# Altium integrated library Linear Technology PMIC-Switching Reg LT1074-LT8705.IntLib: 2252 symbols (part 14 of 124)
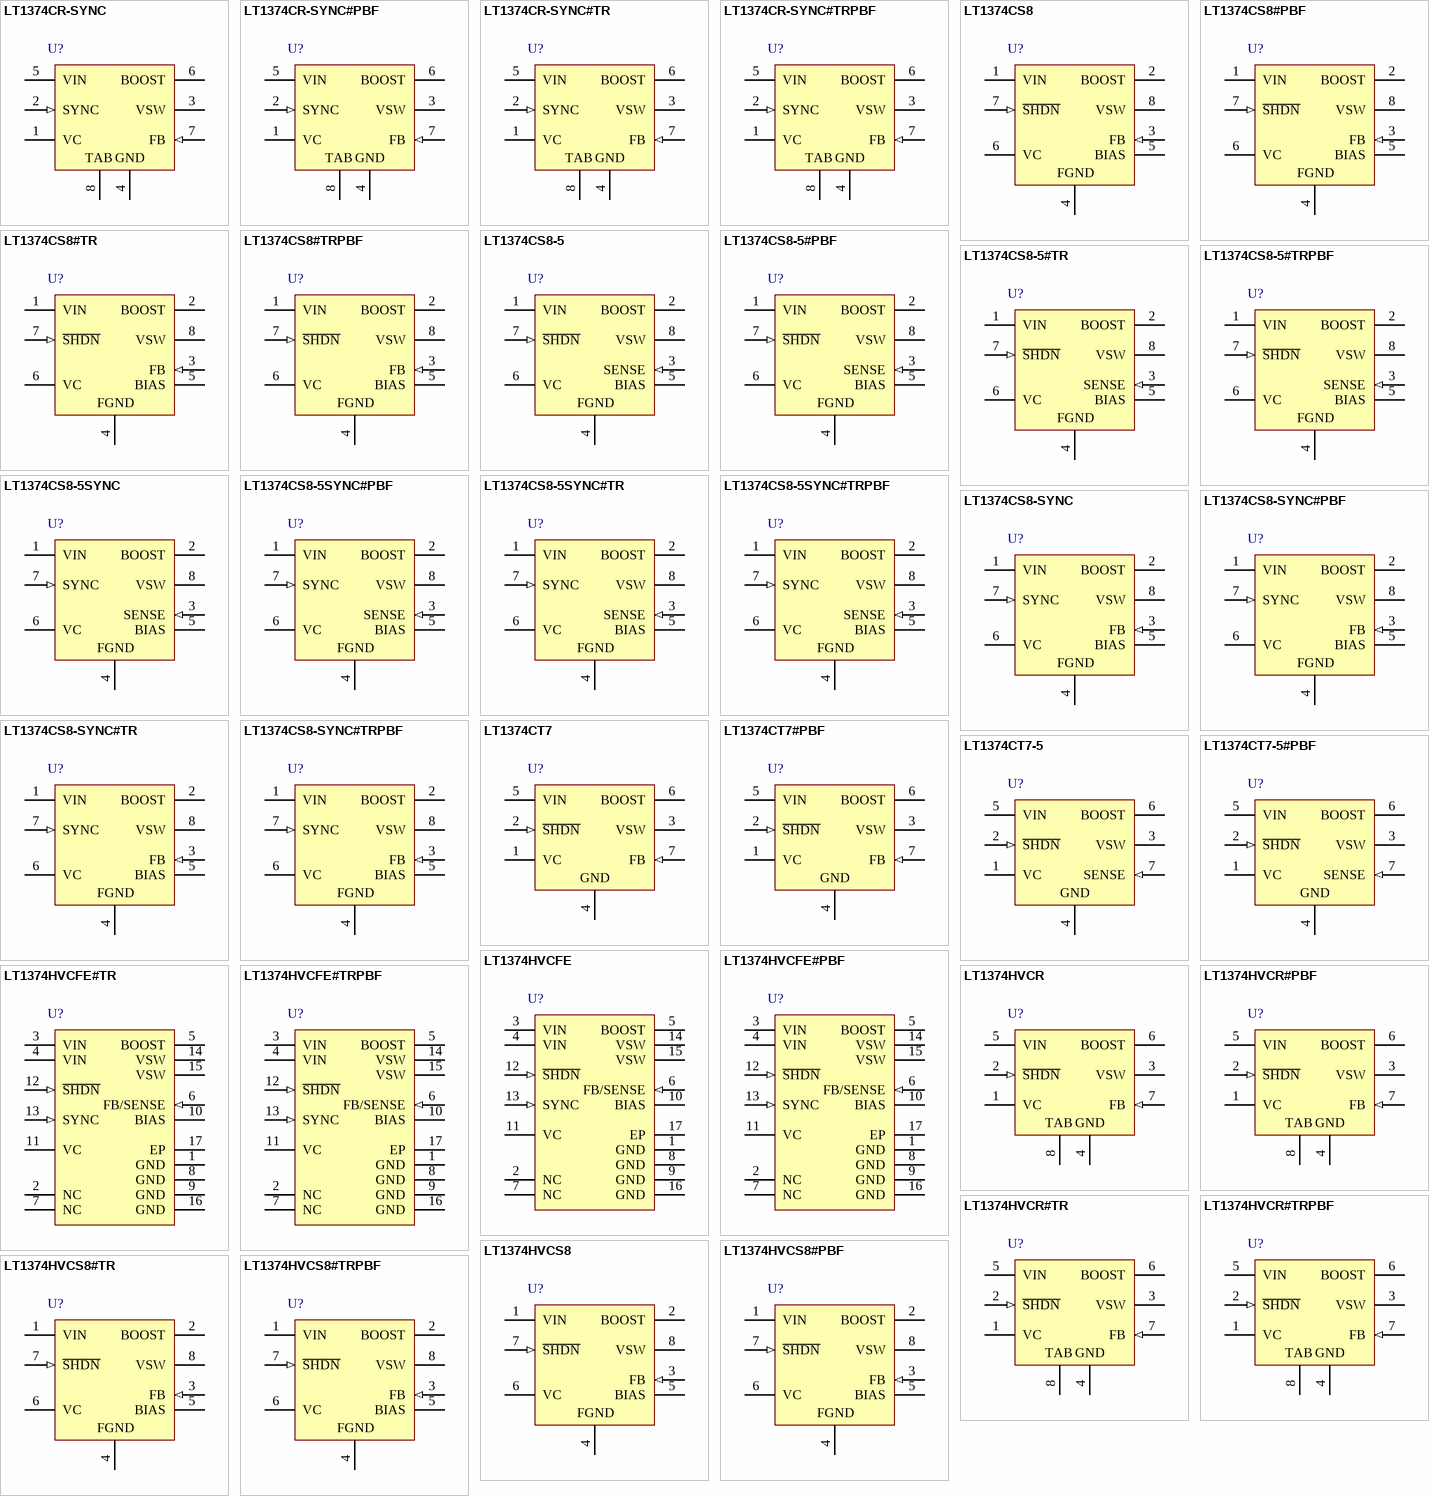
[diagram p84: symbols LT1374CR-SYNC to LT1374HVCS8#TRPBF]

## LT1374HVCFE
designator U?
4.5 A, 500 kHz Step-Down Switching Regulator, 16-pin SOP (FE-16-EPV-BB), 0 to 125 degC; Manufacturer: Linear Technology; PartNumber: LT1374HVCFE; Number of Outputs: 1; PackageReference: FE-16; PackageDescription: 16-Pin Plastic TSSOP, Body 5 x 4.4 mm, Pitch 0.65 mm; Supplier 1: Digi-Key; Supplier Part Number 1: LT1374HVCFE-ND; RoHS: FALSE
footprint LT-FE-16-EPV-BB_N (SOP, 16-Leads, Body 5.1x4.5mm, Pitch 0.65mm, Thermal Pad 3.58x2.94mm, IPC Medium Density)
footprint LT-FE-16-EPV-BB_L (SOP, 16-Leads, Body 5.1x4.5mm, Pitch 0.65mm, Thermal Pad 3.58x2.94mm, IPC High Density)
footprint LT-FE-16-EPV-BB_M (SOP, 16-Leads, Body 5.1x4.5mm, Pitch 0.65mm, Thermal Pad 3.58x2.94mm, IPC Low Density)
pins: 1 GND (power) "The GND pin connection needs consideration for two reasons. First, it acts as the reference for the regulated output, so load regulation will suffer if the “ground?end of the load is not at the same voltage as the (See Datasheet)", 2 NC "No Connect. Leave floating or solder to any node.", 3 VIN (power) "This is the collector of the on-chip power NPN switch. This pin powers the internal circuitry and internal regulator when the BIAS pin is not present. At NPN switch on and off, high dI/dt edges occur on this pin. Keep the (See Datasheet)", 4 VIN (power) "This is the collector of the on-chip power NPN switch. This pin powers the internal circuitry and internal regulator when the BIAS pin is not present. At NPN switch on and off, high dI/dt edges occur on this pin. Keep the (See Datasheet)", 5 BOOST "The BOOST pin is used to provide a drive voltage, higher than the input voltage, to the internal bipolar NPN power switch. Without this added voltage, the typical switch voltage loss would be about 1.5V. The additional boost (See Datasheet)", 6 FB/SENSE (in) "The feedback pin is the input to the error amplifier which is referenced to an internal 2.42V source. An external resistive divider is used to set the output voltage. The fixed voltage (-5) parts have the divider included (See Datasheet)", 7 NC "No Connect. Leave floating or solder to any node.", 8 GND (power) "The GND pin connection needs consideration for two reasons. First, it acts as the reference for the regulated output, so load regulation will suffer if the “ground?end of the load is not at the same voltage as the (See Datasheet)", 9 GND (power) "The GND pin connection needs consideration for two reasons. First, it acts as the reference for the regulated output, so load regulation will suffer if the “ground?end of the load is not at the same voltage as the (See Datasheet)", 10 BIAS (power) "The BIAS pin is used to improve efficiency when operating at higher input voltages and light load current. Connecting this pin to the regulated output voltage forces most of the internal circuitry to draw its operating (See Datasheet)", 11 VC "The VC pin is the output of the error amplifier and the input of the peak switch current comparator. It is normally used for frequency compensation, but can do double duty as a current clamp or control loop override. This (See Datasheet)", 12 ~{SHDN} (in) "The shutdown pin is used to turn off the regulator and to reduce input drain current to a few microamperes. Actually, this pin has two separate thresholds, one at 2.38V to disable switching, and a second at 0.4V to force (See Datasheet)", 13 SYNC (in) "The sync pin is used to synchronize the internal oscillator to an external signal. It is directly logic compatible and can be driven with any signal between 10% and 90% duty cycle. The synchronizing range is equal to initial (See Datasheet)", 14 VSW (power) "The switch pin is the emitter of the on-chip power NPN switch. This pin is driven up to the input pin voltage during switch on time. Inductor current drives the switch pin negative during switch off time. Negative voltage is (See Datasheet)", 15 VSW (power) "The switch pin is the emitter of the on-chip power NPN switch. This pin is driven up to the input pin voltage during switch on time. Inductor current drives the switch pin negative during switch off time. Negative voltage is (See Datasheet)", 16 GND (power) "The GND pin connection needs consideration for two reasons. First, it acts as the reference for the regulated output, so load regulation will suffer if the “ground?end of the load is not at the same voltage as the (See Datasheet)", 17 EP (power)

## LT1374HVCFE#PBF
designator U?
4.5 A, 500 kHz Step-Down Switching Regulator, 16-pin SOP (FE-16-EPV-BB), 0 to 125 degC, Pb-Free; Manufacturer: Linear Technology; PartNumber: LT1374HVCFE#PBF; Number of Outputs: 1; PackageReference: FE-16; PackageDescription: 16-Pin Plastic TSSOP, Body 5 x 4.4 mm, Pitch 0.65 mm; Supplier 1: Digi-Key; Supplier Part Number 1: LT1374HVCFE#PBF-ND; RoHS: TRUE
footprint LT-FE-16-EPV-BB_N (SOP, 16-Leads, Body 5.1x4.5mm, Pitch 0.65mm, Thermal Pad 3.58x2.94mm, IPC Medium Density)
footprint LT-FE-16-EPV-BB_L (SOP, 16-Leads, Body 5.1x4.5mm, Pitch 0.65mm, Thermal Pad 3.58x2.94mm, IPC High Density)
footprint LT-FE-16-EPV-BB_M (SOP, 16-Leads, Body 5.1x4.5mm, Pitch 0.65mm, Thermal Pad 3.58x2.94mm, IPC Low Density)
pins: 1 GND (power) "The GND pin connection needs consideration for two reasons. First, it acts as the reference for the regulated output, so load regulation will suffer if the “ground?end of the load is not at the same voltage as the (See Datasheet)", 2 NC "No Connect. Leave floating or solder to any node.", 3 VIN (power) "This is the collector of the on-chip power NPN switch. This pin powers the internal circuitry and internal regulator when the BIAS pin is not present. At NPN switch on and off, high dI/dt edges occur on this pin. Keep the (See Datasheet)", 4 VIN (power) "This is the collector of the on-chip power NPN switch. This pin powers the internal circuitry and internal regulator when the BIAS pin is not present. At NPN switch on and off, high dI/dt edges occur on this pin. Keep the (See Datasheet)", 5 BOOST "The BOOST pin is used to provide a drive voltage, higher than the input voltage, to the internal bipolar NPN power switch. Without this added voltage, the typical switch voltage loss would be about 1.5V. The additional boost (See Datasheet)", 6 FB/SENSE (in) "The feedback pin is the input to the error amplifier which is referenced to an internal 2.42V source. An external resistive divider is used to set the output voltage. The fixed voltage (-5) parts have the divider included (See Datasheet)", 7 NC "No Connect. Leave floating or solder to any node.", 8 GND (power) "The GND pin connection needs consideration for two reasons. First, it acts as the reference for the regulated output, so load regulation will suffer if the “ground?end of the load is not at the same voltage as the (See Datasheet)", 9 GND (power) "The GND pin connection needs consideration for two reasons. First, it acts as the reference for the regulated output, so load regulation will suffer if the “ground?end of the load is not at the same voltage as the (See Datasheet)", 10 BIAS (power) "The BIAS pin is used to improve efficiency when operating at higher input voltages and light load current. Connecting this pin to the regulated output voltage forces most of the internal circuitry to draw its operating (See Datasheet)", 11 VC "The VC pin is the output of the error amplifier and the input of the peak switch current comparator. It is normally used for frequency compensation, but can do double duty as a current clamp or control loop override. This (See Datasheet)", 12 ~{SHDN} (in) "The shutdown pin is used to turn off the regulator and to reduce input drain current to a few microamperes. Actually, this pin has two separate thresholds, one at 2.38V to disable switching, and a second at 0.4V to force (See Datasheet)", 13 SYNC (in) "The sync pin is used to synchronize the internal oscillator to an external signal. It is directly logic compatible and can be driven with any signal between 10% and 90% duty cycle. The synchronizing range is equal to initial (See Datasheet)", 14 VSW (power) "The switch pin is the emitter of the on-chip power NPN switch. This pin is driven up to the input pin voltage during switch on time. Inductor current drives the switch pin negative during switch off time. Negative voltage is (See Datasheet)", 15 VSW (power) "The switch pin is the emitter of the on-chip power NPN switch. This pin is driven up to the input pin voltage during switch on time. Inductor current drives the switch pin negative during switch off time. Negative voltage is (See Datasheet)", 16 GND (power) "The GND pin connection needs consideration for two reasons. First, it acts as the reference for the regulated output, so load regulation will suffer if the “ground?end of the load is not at the same voltage as the (See Datasheet)", 17 EP (power)

## LT1374HVCFE#TR
designator U?
4.5 A, 500 kHz Step-Down Switching Regulator, 16-pin SOP (FE-16-EPV-BB), 0 to 125 degC, Tape and Reel; Manufacturer: Linear Technology; PartNumber: LT1374HVCFE#TR; Number of Outputs: 1; PackageReference: FE-16; PackageDescription: 16-Pin Plastic TSSOP, Body 5 x 4.4 mm, Pitch 0.65 mm; Supplier 1: Digi-Key; Supplier Part Number 1: LT1374HVCFE#TR-ND; RoHS: FALSE
footprint LT-FE-16-EPV-BB_N (SOP, 16-Leads, Body 5.1x4.5mm, Pitch 0.65mm, Thermal Pad 3.58x2.94mm, IPC Medium Density)
footprint LT-FE-16-EPV-BB_L (SOP, 16-Leads, Body 5.1x4.5mm, Pitch 0.65mm, Thermal Pad 3.58x2.94mm, IPC High Density)
footprint LT-FE-16-EPV-BB_M (SOP, 16-Leads, Body 5.1x4.5mm, Pitch 0.65mm, Thermal Pad 3.58x2.94mm, IPC Low Density)
pins: 1 GND (power) "The GND pin connection needs consideration for two reasons. First, it acts as the reference for the regulated output, so load regulation will suffer if the “ground?end of the load is not at the same voltage as the (See Datasheet)", 2 NC "No Connect. Leave floating or solder to any node.", 3 VIN (power) "This is the collector of the on-chip power NPN switch. This pin powers the internal circuitry and internal regulator when the BIAS pin is not present. At NPN switch on and off, high dI/dt edges occur on this pin. Keep the (See Datasheet)", 4 VIN (power) "This is the collector of the on-chip power NPN switch. This pin powers the internal circuitry and internal regulator when the BIAS pin is not present. At NPN switch on and off, high dI/dt edges occur on this pin. Keep the (See Datasheet)", 5 BOOST "The BOOST pin is used to provide a drive voltage, higher than the input voltage, to the internal bipolar NPN power switch. Without this added voltage, the typical switch voltage loss would be about 1.5V. The additional boost (See Datasheet)", 6 FB/SENSE (in) "The feedback pin is the input to the error amplifier which is referenced to an internal 2.42V source. An external resistive divider is used to set the output voltage. The fixed voltage (-5) parts have the divider included (See Datasheet)", 7 NC "No Connect. Leave floating or solder to any node.", 8 GND (power) "The GND pin connection needs consideration for two reasons. First, it acts as the reference for the regulated output, so load regulation will suffer if the “ground?end of the load is not at the same voltage as the (See Datasheet)", 9 GND (power) "The GND pin connection needs consideration for two reasons. First, it acts as the reference for the regulated output, so load regulation will suffer if the “ground?end of the load is not at the same voltage as the (See Datasheet)", 10 BIAS (power) "The BIAS pin is used to improve efficiency when operating at higher input voltages and light load current. Connecting this pin to the regulated output voltage forces most of the internal circuitry to draw its operating (See Datasheet)", 11 VC "The VC pin is the output of the error amplifier and the input of the peak switch current comparator. It is normally used for frequency compensation, but can do double duty as a current clamp or control loop override. This (See Datasheet)", 12 ~{SHDN} (in) "The shutdown pin is used to turn off the regulator and to reduce input drain current to a few microamperes. Actually, this pin has two separate thresholds, one at 2.38V to disable switching, and a second at 0.4V to force (See Datasheet)", 13 SYNC (in) "The sync pin is used to synchronize the internal oscillator to an external signal. It is directly logic compatible and can be driven with any signal between 10% and 90% duty cycle. The synchronizing range is equal to initial (See Datasheet)", 14 VSW (power) "The switch pin is the emitter of the on-chip power NPN switch. This pin is driven up to the input pin voltage during switch on time. Inductor current drives the switch pin negative during switch off time. Negative voltage is (See Datasheet)", 15 VSW (power) "The switch pin is the emitter of the on-chip power NPN switch. This pin is driven up to the input pin voltage during switch on time. Inductor current drives the switch pin negative during switch off time. Negative voltage is (See Datasheet)", 16 GND (power) "The GND pin connection needs consideration for two reasons. First, it acts as the reference for the regulated output, so load regulation will suffer if the “ground?end of the load is not at the same voltage as the (See Datasheet)", 17 EP (power)

## LT1374HVCFE#TRPBF
designator U?
4.5 A, 500 kHz Step-Down Switching Regulator, 16-pin SOP (FE-16-EPV-BB), 0 to 125 degC, Pb-Free, Tape and Reel; Manufacturer: Linear Technology; PartNumber: LT1374HVCFE#TRPBF; Number of Outputs: 1; PackageReference: FE-16; PackageDescription: 16-Pin Plastic TSSOP, Body 5 x 4.4 mm, Pitch 0.65 mm; Supplier 1: Digi-Key; Supplier Part Number 1: LT1374HVCFE#TRPBF-ND; RoHS: TRUE
footprint LT-FE-16-EPV-BB_N (SOP, 16-Leads, Body 5.1x4.5mm, Pitch 0.65mm, Thermal Pad 3.58x2.94mm, IPC Medium Density)
footprint LT-FE-16-EPV-BB_L (SOP, 16-Leads, Body 5.1x4.5mm, Pitch 0.65mm, Thermal Pad 3.58x2.94mm, IPC High Density)
footprint LT-FE-16-EPV-BB_M (SOP, 16-Leads, Body 5.1x4.5mm, Pitch 0.65mm, Thermal Pad 3.58x2.94mm, IPC Low Density)
pins: 1 GND (power) "The GND pin connection needs consideration for two reasons. First, it acts as the reference for the regulated output, so load regulation will suffer if the “ground?end of the load is not at the same voltage as the (See Datasheet)", 2 NC "No Connect. Leave floating or solder to any node.", 3 VIN (power) "This is the collector of the on-chip power NPN switch. This pin powers the internal circuitry and internal regulator when the BIAS pin is not present. At NPN switch on and off, high dI/dt edges occur on this pin. Keep the (See Datasheet)", 4 VIN (power) "This is the collector of the on-chip power NPN switch. This pin powers the internal circuitry and internal regulator when the BIAS pin is not present. At NPN switch on and off, high dI/dt edges occur on this pin. Keep the (See Datasheet)", 5 BOOST "The BOOST pin is used to provide a drive voltage, higher than the input voltage, to the internal bipolar NPN power switch. Without this added voltage, the typical switch voltage loss would be about 1.5V. The additional boost (See Datasheet)", 6 FB/SENSE (in) "The feedback pin is the input to the error amplifier which is referenced to an internal 2.42V source. An external resistive divider is used to set the output voltage. The fixed voltage (-5) parts have the divider included (See Datasheet)", 7 NC "No Connect. Leave floating or solder to any node.", 8 GND (power) "The GND pin connection needs consideration for two reasons. First, it acts as the reference for the regulated output, so load regulation will suffer if the “ground?end of the load is not at the same voltage as the (See Datasheet)", 9 GND (power) "The GND pin connection needs consideration for two reasons. First, it acts as the reference for the regulated output, so load regulation will suffer if the “ground?end of the load is not at the same voltage as the (See Datasheet)", 10 BIAS (power) "The BIAS pin is used to improve efficiency when operating at higher input voltages and light load current. Connecting this pin to the regulated output voltage forces most of the internal circuitry to draw its operating (See Datasheet)", 11 VC "The VC pin is the output of the error amplifier and the input of the peak switch current comparator. It is normally used for frequency compensation, but can do double duty as a current clamp or control loop override. This (See Datasheet)", 12 ~{SHDN} (in) "The shutdown pin is used to turn off the regulator and to reduce input drain current to a few microamperes. Actually, this pin has two separate thresholds, one at 2.38V to disable switching, and a second at 0.4V to force (See Datasheet)", 13 SYNC (in) "The sync pin is used to synchronize the internal oscillator to an external signal. It is directly logic compatible and can be driven with any signal between 10% and 90% duty cycle. The synchronizing range is equal to initial (See Datasheet)", 14 VSW (power) "The switch pin is the emitter of the on-chip power NPN switch. This pin is driven up to the input pin voltage during switch on time. Inductor current drives the switch pin negative during switch off time. Negative voltage is (See Datasheet)", 15 VSW (power) "The switch pin is the emitter of the on-chip power NPN switch. This pin is driven up to the input pin voltage during switch on time. Inductor current drives the switch pin negative during switch off time. Negative voltage is (See Datasheet)", 16 GND (power) "The GND pin connection needs consideration for two reasons. First, it acts as the reference for the regulated output, so load regulation will suffer if the “ground?end of the load is not at the same voltage as the (See Datasheet)", 17 EP (power)

## LT1374HVCR
designator U?
4.5 A, 500 kHz Step-Down Switching Regulator, 7-pin DPAK (R-7), 0 to 125 degC; Manufacturer: Linear Technology; PartNumber: LT1374HVCR; Number of Outputs: 1; PackageReference: R-7; PackageDescription: 7-Pin Plastic DD Pak, Body 10.2235 x 8.89 mm, Pitch 1.27 mm; Supplier 1: Digi-Key; Supplier Part Number 1: LT1374HVCR-ND; RoHS: FALSE
footprint LT-R-7_N (DPAK, 7-Leads, Body 10.224x8.89mm, Pitch 1.27mm, IPC Medium Density)
footprint LT-R-7_L (DPAK, 7-Leads, Body 10.224x8.89mm, Pitch 1.27mm, IPC High Density)
footprint LT-R-7_M (DPAK, 7-Leads, Body 10.224x8.89mm, Pitch 1.27mm, IPC Low Density)
pins: 1 VC "The VC pin is the output of the error amplifier and the input of the peak switch current comparator. It is normally used for frequency compensation, but can do double duty as a current clamp or control loop override. This (See Datasheet)", 2 ~{SHDN} (in), 3 VSW (power), 4 GND (power), 5 VIN (power), 6 BOOST, 7 FB (in), 8 TAB (power)

## LT1374HVCR#PBF
designator U?
4.5 A, 500 kHz Step-Down Switching Regulator, 7-pin DPAK (R-7), 0 to 125 degC, Pb-Free; Manufacturer: Linear Technology; PartNumber: LT1374HVCR#PBF; Number of Outputs: 1; PackageReference: R-7; PackageDescription: 7-Pin Plastic DD Pak, Body 10.2235 x 8.89 mm, Pitch 1.27 mm; Supplier 1: Digi-Key; Supplier Part Number 1: LT1374HVCR#PBF-ND; RoHS: TRUE
footprint LT-R-7_N (DPAK, 7-Leads, Body 10.224x8.89mm, Pitch 1.27mm, IPC Medium Density)
footprint LT-R-7_L (DPAK, 7-Leads, Body 10.224x8.89mm, Pitch 1.27mm, IPC High Density)
footprint LT-R-7_M (DPAK, 7-Leads, Body 10.224x8.89mm, Pitch 1.27mm, IPC Low Density)
pins: 1 VC "The VC pin is the output of the error amplifier and the input of the peak switch current comparator. It is normally used for frequency compensation, but can do double duty as a current clamp or control loop override. This (See Datasheet)", 2 ~{SHDN} (in), 3 VSW (power), 4 GND (power), 5 VIN (power), 6 BOOST, 7 FB (in), 8 TAB (power)

## LT1374HVCR#TR
designator U?
4.5 A, 500 kHz Step-Down Switching Regulator, 7-pin DPAK (R-7), 0 to 125 degC, Tape and Reel; Manufacturer: Linear Technology; PartNumber: LT1374HVCR#TR; Number of Outputs: 1; PackageReference: R-7; PackageDescription: 7-Pin Plastic DD Pak, Body 10.2235 x 8.89 mm, Pitch 1.27 mm; Supplier 1: Digi-Key; Supplier Part Number 1: LT1374HVCR#TR-ND; RoHS: FALSE
footprint LT-R-7_N (DPAK, 7-Leads, Body 10.224x8.89mm, Pitch 1.27mm, IPC Medium Density)
footprint LT-R-7_L (DPAK, 7-Leads, Body 10.224x8.89mm, Pitch 1.27mm, IPC High Density)
footprint LT-R-7_M (DPAK, 7-Leads, Body 10.224x8.89mm, Pitch 1.27mm, IPC Low Density)
pins: 1 VC "The VC pin is the output of the error amplifier and the input of the peak switch current comparator. It is normally used for frequency compensation, but can do double duty as a current clamp or control loop override. This (See Datasheet)", 2 ~{SHDN} (in), 3 VSW (power), 4 GND (power), 5 VIN (power), 6 BOOST, 7 FB (in), 8 TAB (power)

## LT1374HVCR#TRPBF
designator U?
4.5 A, 500 kHz Step-Down Switching Regulator, 7-pin DPAK (R-7), 0 to 125 degC, Pb-Free, Tape and Reel; Manufacturer: Linear Technology; PartNumber: LT1374HVCR#TRPBF; Number of Outputs: 1; PackageReference: R-7; PackageDescription: 7-Pin Plastic DD Pak, Body 10.2235 x 8.89 mm, Pitch 1.27 mm; Supplier 1: Digi-Key; Supplier Part Number 1: LT1374HVCR#TRPBF-ND; RoHS: TRUE
footprint LT-R-7_N (DPAK, 7-Leads, Body 10.224x8.89mm, Pitch 1.27mm, IPC Medium Density)
footprint LT-R-7_L (DPAK, 7-Leads, Body 10.224x8.89mm, Pitch 1.27mm, IPC High Density)
footprint LT-R-7_M (DPAK, 7-Leads, Body 10.224x8.89mm, Pitch 1.27mm, IPC Low Density)
pins: 1 VC "The VC pin is the output of the error amplifier and the input of the peak switch current comparator. It is normally used for frequency compensation, but can do double duty as a current clamp or control loop override. This (See Datasheet)", 2 ~{SHDN} (in), 3 VSW (power), 4 GND (power), 5 VIN (power), 6 BOOST, 7 FB (in), 8 TAB (power)

## LT1374HVCS8
designator U?
4.5 A, 500 kHz Step-Down Switching Regulator, 8-pin SOIC (S8-8), 0 to 125 degC; Manufacturer: Linear Technology; PartNumber: LT1374HVCS8; Number of Outputs: 1; PackageReference: S8-8; PackageDescription: 8-Pin Plastic Small Outline (Narrow .150 Inch), Body 4.9 x 3.9 mm, Pitch 1.27 mm; Supplier 1: Digi-Key; Supplier Part Number 1: LT1374HVCS8-ND; RoHS: FALSE
footprint LT-S8-8_N (SOIC, 8-Leads, Body 5x4mm, Pitch 1.27mm, IPC Medium Density)
footprint LT-S8-8_L (SOIC, 8-Leads, Body 5x4mm, Pitch 1.27mm, IPC High Density)
footprint LT-S8-8_M (SOIC, 8-Leads, Body 5x4mm, Pitch 1.27mm, IPC Low Density)
pins: 1 VIN (power) "This is the collector of the on-chip power NPN switch. This pin powers the internal circuitry and internal regulator when the BIAS pin is not present. At NPN switch on and off, high dI/dt edges occur on this pin. Keep the (See Datasheet)", 2 BOOST "The BOOST pin is used to provide a drive voltage, higher than the input voltage, to the internal bipolar NPN power switch. Without this added voltage, the typical switch voltage loss would be about 1.5V. The additional boost (See Datasheet)", 3 FB (in) "The feedback pin is the input to the error amplifier which is referenced to an internal 2.42V source. An external resistive divider is used to set the output voltage. The fixed voltage (-5) parts have the divider included (See Datasheet)", 4 FGND (power), 5 BIAS (power) "The BIAS pin is used to improve efficiency when operating at higher input voltages and light load current. Connecting this pin to the regulated output voltage forces most of the internal circuitry to draw its operating (See Datasheet)", 6 VC "The VC pin is the output of the error amplifier and the input of the peak switch current comparator. It is normally used for frequency compensation, but can do double duty as a current clamp or control loop override. This (See Datasheet)", 7 ~{SHDN} (in) "The shutdown pin is used to turn off the regulator and to reduce input drain current to a few microamperes. Actually, this pin has two separate thresholds, one at 2.38V to disable switching, and a second at 0.4V to force (See Datasheet)", 8 VSW (power) "The switch pin is the emitter of the on-chip power NPN switch. This pin is driven up to the input pin voltage during switch on time. Inductor current drives the switch pin negative during switch off time. Negative voltage is (See Datasheet)"

## LT1374HVCS8#PBF
designator U?
4.5 A, 500 kHz Step-Down Switching Regulator, 8-pin SOIC (S8-8), 0 to 125 degC, Pb-Free; Manufacturer: Linear Technology; PartNumber: LT1374HVCS8#PBF; Number of Outputs: 1; PackageReference: S8-8; PackageDescription: 8-Pin Plastic Small Outline (Narrow .150 Inch), Body 4.9 x 3.9 mm, Pitch 1.27 mm; Supplier 1: Digi-Key; Supplier Part Number 1: LT1374HVCS8#PBF-ND; RoHS: TRUE
footprint LT-S8-8_N (SOIC, 8-Leads, Body 5x4mm, Pitch 1.27mm, IPC Medium Density)
footprint LT-S8-8_L (SOIC, 8-Leads, Body 5x4mm, Pitch 1.27mm, IPC High Density)
footprint LT-S8-8_M (SOIC, 8-Leads, Body 5x4mm, Pitch 1.27mm, IPC Low Density)
pins: 1 VIN (power) "This is the collector of the on-chip power NPN switch. This pin powers the internal circuitry and internal regulator when the BIAS pin is not present. At NPN switch on and off, high dI/dt edges occur on this pin. Keep the (See Datasheet)", 2 BOOST "The BOOST pin is used to provide a drive voltage, higher than the input voltage, to the internal bipolar NPN power switch. Without this added voltage, the typical switch voltage loss would be about 1.5V. The additional boost (See Datasheet)", 3 FB (in) "The feedback pin is the input to the error amplifier which is referenced to an internal 2.42V source. An external resistive divider is used to set the output voltage. The fixed voltage (-5) parts have the divider included (See Datasheet)", 4 FGND (power), 5 BIAS (power) "The BIAS pin is used to improve efficiency when operating at higher input voltages and light load current. Connecting this pin to the regulated output voltage forces most of the internal circuitry to draw its operating (See Datasheet)", 6 VC "The VC pin is the output of the error amplifier and the input of the peak switch current comparator. It is normally used for frequency compensation, but can do double duty as a current clamp or control loop override. This (See Datasheet)", 7 ~{SHDN} (in) "The shutdown pin is used to turn off the regulator and to reduce input drain current to a few microamperes. Actually, this pin has two separate thresholds, one at 2.38V to disable switching, and a second at 0.4V to force (See Datasheet)", 8 VSW (power) "The switch pin is the emitter of the on-chip power NPN switch. This pin is driven up to the input pin voltage during switch on time. Inductor current drives the switch pin negative during switch off time. Negative voltage is (See Datasheet)"

## LT1374HVCS8#TR
designator U?
4.5 A, 500 kHz Step-Down Switching Regulator, 8-pin SOIC (S8-8), 0 to 125 degC, Tape and Reel; Manufacturer: Linear Technology; PartNumber: LT1374HVCS8#TR; Number of Outputs: 1; PackageReference: S8-8; PackageDescription: 8-Pin Plastic Small Outline (Narrow .150 Inch), Body 4.9 x 3.9 mm, Pitch 1.27 mm; Supplier 1: Digi-Key; Supplier Part Number 1: LT1374HVCS8#TR-ND; RoHS: FALSE
footprint LT-S8-8_N (SOIC, 8-Leads, Body 5x4mm, Pitch 1.27mm, IPC Medium Density)
footprint LT-S8-8_L (SOIC, 8-Leads, Body 5x4mm, Pitch 1.27mm, IPC High Density)
footprint LT-S8-8_M (SOIC, 8-Leads, Body 5x4mm, Pitch 1.27mm, IPC Low Density)
pins: 1 VIN (power) "This is the collector of the on-chip power NPN switch. This pin powers the internal circuitry and internal regulator when the BIAS pin is not present. At NPN switch on and off, high dI/dt edges occur on this pin. Keep the (See Datasheet)", 2 BOOST "The BOOST pin is used to provide a drive voltage, higher than the input voltage, to the internal bipolar NPN power switch. Without this added voltage, the typical switch voltage loss would be about 1.5V. The additional boost (See Datasheet)", 3 FB (in) "The feedback pin is the input to the error amplifier which is referenced to an internal 2.42V source. An external resistive divider is used to set the output voltage. The fixed voltage (-5) parts have the divider included (See Datasheet)", 4 FGND (power), 5 BIAS (power) "The BIAS pin is used to improve efficiency when operating at higher input voltages and light load current. Connecting this pin to the regulated output voltage forces most of the internal circuitry to draw its operating (See Datasheet)", 6 VC "The VC pin is the output of the error amplifier and the input of the peak switch current comparator. It is normally used for frequency compensation, but can do double duty as a current clamp or control loop override. This (See Datasheet)", 7 ~{SHDN} (in) "The shutdown pin is used to turn off the regulator and to reduce input drain current to a few microamperes. Actually, this pin has two separate thresholds, one at 2.38V to disable switching, and a second at 0.4V to force (See Datasheet)", 8 VSW (power) "The switch pin is the emitter of the on-chip power NPN switch. This pin is driven up to the input pin voltage during switch on time. Inductor current drives the switch pin negative during switch off time. Negative voltage is (See Datasheet)"

## LT1374HVCS8#TRPBF
designator U?
4.5 A, 500 kHz Step-Down Switching Regulator, 8-pin SOIC (S8-8), 0 to 125 degC, Pb-Free, Tape and Reel; Manufacturer: Linear Technology; PartNumber: LT1374HVCS8#TRPBF; Number of Outputs: 1; PackageReference: S8-8; PackageDescription: 8-Pin Plastic Small Outline (Narrow .150 Inch), Body 4.9 x 3.9 mm, Pitch 1.27 mm; Supplier 1: Digi-Key; Supplier Part Number 1: LT1374HVCS8#TRPBF-ND; RoHS: TRUE
footprint LT-S8-8_N (SOIC, 8-Leads, Body 5x4mm, Pitch 1.27mm, IPC Medium Density)
footprint LT-S8-8_L (SOIC, 8-Leads, Body 5x4mm, Pitch 1.27mm, IPC High Density)
footprint LT-S8-8_M (SOIC, 8-Leads, Body 5x4mm, Pitch 1.27mm, IPC Low Density)
pins: 1 VIN (power) "This is the collector of the on-chip power NPN switch. This pin powers the internal circuitry and internal regulator when the BIAS pin is not present. At NPN switch on and off, high dI/dt edges occur on this pin. Keep the (See Datasheet)", 2 BOOST "The BOOST pin is used to provide a drive voltage, higher than the input voltage, to the internal bipolar NPN power switch. Without this added voltage, the typical switch voltage loss would be about 1.5V. The additional boost (See Datasheet)", 3 FB (in) "The feedback pin is the input to the error amplifier which is referenced to an internal 2.42V source. An external resistive divider is used to set the output voltage. The fixed voltage (-5) parts have the divider included (See Datasheet)", 4 FGND (power), 5 BIAS (power) "The BIAS pin is used to improve efficiency when operating at higher input voltages and light load current. Connecting this pin to the regulated output voltage forces most of the internal circuitry to draw its operating (See Datasheet)", 6 VC "The VC pin is the output of the error amplifier and the input of the peak switch current comparator. It is normally used for frequency compensation, but can do double duty as a current clamp or control loop override. This (See Datasheet)", 7 ~{SHDN} (in) "The shutdown pin is used to turn off the regulator and to reduce input drain current to a few microamperes. Actually, this pin has two separate thresholds, one at 2.38V to disable switching, and a second at 0.4V to force (See Datasheet)", 8 VSW (power) "The switch pin is the emitter of the on-chip power NPN switch. This pin is driven up to the input pin voltage during switch on time. Inductor current drives the switch pin negative during switch off time. Negative voltage is (See Datasheet)"

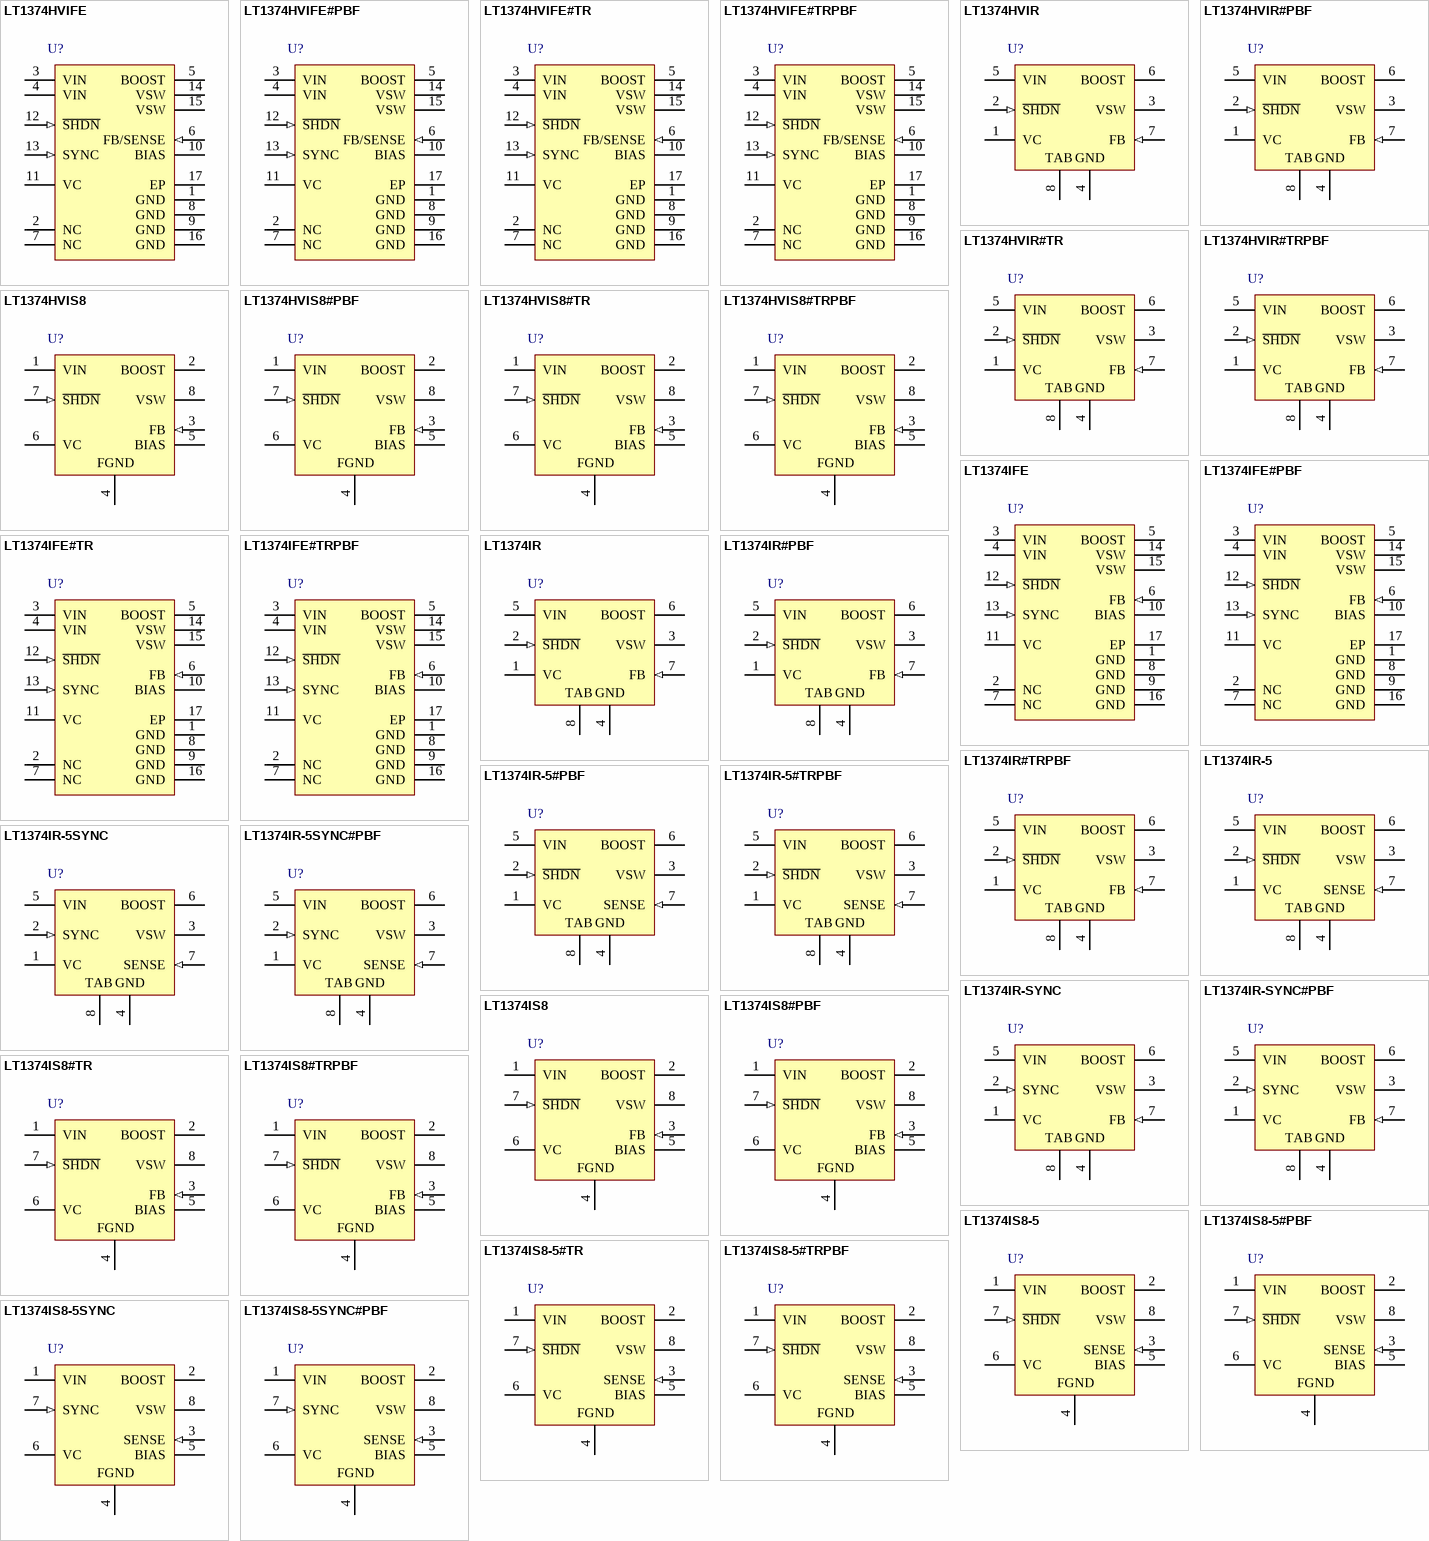
[diagram p11: symbols LT1374HVIFE to LT1374IS8-5SYNC#PBF]

## LT1374HVIFE
designator U?
4.5 A, 500 kHz Step-Down Switching Regulator, 16-pin SOP (FE-16-EPV-BB), -40 to 125 degC; Manufacturer: Linear Technology; PartNumber: LT1374HVIFE; Number of Outputs: 1; PackageReference: FE-16; PackageDescription: 16-Pin Plastic TSSOP, Body 5 x 4.4 mm, Pitch 0.65 mm; Supplier 1: Digi-Key; Supplier Part Number 1: LT1374HVIFE-ND; RoHS: FALSE
footprint LT-FE-16-EPV-BB_N (SOP, 16-Leads, Body 5.1x4.5mm, Pitch 0.65mm, Thermal Pad 3.58x2.94mm, IPC Medium Density)
footprint LT-FE-16-EPV-BB_L (SOP, 16-Leads, Body 5.1x4.5mm, Pitch 0.65mm, Thermal Pad 3.58x2.94mm, IPC High Density)
footprint LT-FE-16-EPV-BB_M (SOP, 16-Leads, Body 5.1x4.5mm, Pitch 0.65mm, Thermal Pad 3.58x2.94mm, IPC Low Density)
pins: 1 GND (power) "The GND pin connection needs consideration for two reasons. First, it acts as the reference for the regulated output, so load regulation will suffer if the “ground?end of the load is not at the same voltage as the (See Datasheet)", 2 NC "No Connect. Leave floating or solder to any node.", 3 VIN (power) "This is the collector of the on-chip power NPN switch. This pin powers the internal circuitry and internal regulator when the BIAS pin is not present. At NPN switch on and off, high dI/dt edges occur on this pin. Keep the (See Datasheet)", 4 VIN (power) "This is the collector of the on-chip power NPN switch. This pin powers the internal circuitry and internal regulator when the BIAS pin is not present. At NPN switch on and off, high dI/dt edges occur on this pin. Keep the (See Datasheet)", 5 BOOST "The BOOST pin is used to provide a drive voltage, higher than the input voltage, to the internal bipolar NPN power switch. Without this added voltage, the typical switch voltage loss would be about 1.5V. The additional boost (See Datasheet)", 6 FB/SENSE (in) "The feedback pin is the input to the error amplifier which is referenced to an internal 2.42V source. An external resistive divider is used to set the output voltage. The fixed voltage (-5) parts have the divider included (See Datasheet)", 7 NC "No Connect. Leave floating or solder to any node.", 8 GND (power) "The GND pin connection needs consideration for two reasons. First, it acts as the reference for the regulated output, so load regulation will suffer if the “ground?end of the load is not at the same voltage as the (See Datasheet)", 9 GND (power) "The GND pin connection needs consideration for two reasons. First, it acts as the reference for the regulated output, so load regulation will suffer if the “ground?end of the load is not at the same voltage as the (See Datasheet)", 10 BIAS (power) "The BIAS pin is used to improve efficiency when operating at higher input voltages and light load current. Connecting this pin to the regulated output voltage forces most of the internal circuitry to draw its operating (See Datasheet)", 11 VC "The VC pin is the output of the error amplifier and the input of the peak switch current comparator. It is normally used for frequency compensation, but can do double duty as a current clamp or control loop override. This (See Datasheet)", 12 ~{SHDN} (in) "The shutdown pin is used to turn off the regulator and to reduce input drain current to a few microamperes. Actually, this pin has two separate thresholds, one at 2.38V to disable switching, and a second at 0.4V to force (See Datasheet)", 13 SYNC (in) "The sync pin is used to synchronize the internal oscillator to an external signal. It is directly logic compatible and can be driven with any signal between 10% and 90% duty cycle. The synchronizing range is equal to initial (See Datasheet)", 14 VSW (power) "The switch pin is the emitter of the on-chip power NPN switch. This pin is driven up to the input pin voltage during switch on time. Inductor current drives the switch pin negative during switch off time. Negative voltage is (See Datasheet)", 15 VSW (power) "The switch pin is the emitter of the on-chip power NPN switch. This pin is driven up to the input pin voltage during switch on time. Inductor current drives the switch pin negative during switch off time. Negative voltage is (See Datasheet)", 16 GND (power) "The GND pin connection needs consideration for two reasons. First, it acts as the reference for the regulated output, so load regulation will suffer if the “ground?end of the load is not at the same voltage as the (See Datasheet)", 17 EP (power)

## LT1374HVIFE#PBF
designator U?
4.5 A, 500 kHz Step-Down Switching Regulator, 16-pin SOP (FE-16-EPV-BB), -40 to 125 degC, Pb-Free; Manufacturer: Linear Technology; PartNumber: LT1374HVIFE#PBF; Number of Outputs: 1; PackageReference: FE-16; PackageDescription: 16-Pin Plastic TSSOP, Body 5 x 4.4 mm, Pitch 0.65 mm; Supplier 1: Digi-Key; Supplier Part Number 1: LT1374HVIFE#PBF-ND; RoHS: TRUE
footprint LT-FE-16-EPV-BB_N (SOP, 16-Leads, Body 5.1x4.5mm, Pitch 0.65mm, Thermal Pad 3.58x2.94mm, IPC Medium Density)
footprint LT-FE-16-EPV-BB_L (SOP, 16-Leads, Body 5.1x4.5mm, Pitch 0.65mm, Thermal Pad 3.58x2.94mm, IPC High Density)
footprint LT-FE-16-EPV-BB_M (SOP, 16-Leads, Body 5.1x4.5mm, Pitch 0.65mm, Thermal Pad 3.58x2.94mm, IPC Low Density)
pins: 1 GND (power) "The GND pin connection needs consideration for two reasons. First, it acts as the reference for the regulated output, so load regulation will suffer if the “ground?end of the load is not at the same voltage as the (See Datasheet)", 2 NC "No Connect. Leave floating or solder to any node.", 3 VIN (power) "This is the collector of the on-chip power NPN switch. This pin powers the internal circuitry and internal regulator when the BIAS pin is not present. At NPN switch on and off, high dI/dt edges occur on this pin. Keep the (See Datasheet)", 4 VIN (power) "This is the collector of the on-chip power NPN switch. This pin powers the internal circuitry and internal regulator when the BIAS pin is not present. At NPN switch on and off, high dI/dt edges occur on this pin. Keep the (See Datasheet)", 5 BOOST "The BOOST pin is used to provide a drive voltage, higher than the input voltage, to the internal bipolar NPN power switch. Without this added voltage, the typical switch voltage loss would be about 1.5V. The additional boost (See Datasheet)", 6 FB/SENSE (in) "The feedback pin is the input to the error amplifier which is referenced to an internal 2.42V source. An external resistive divider is used to set the output voltage. The fixed voltage (-5) parts have the divider included (See Datasheet)", 7 NC "No Connect. Leave floating or solder to any node.", 8 GND (power) "The GND pin connection needs consideration for two reasons. First, it acts as the reference for the regulated output, so load regulation will suffer if the “ground?end of the load is not at the same voltage as the (See Datasheet)", 9 GND (power) "The GND pin connection needs consideration for two reasons. First, it acts as the reference for the regulated output, so load regulation will suffer if the “ground?end of the load is not at the same voltage as the (See Datasheet)", 10 BIAS (power) "The BIAS pin is used to improve efficiency when operating at higher input voltages and light load current. Connecting this pin to the regulated output voltage forces most of the internal circuitry to draw its operating (See Datasheet)", 11 VC "The VC pin is the output of the error amplifier and the input of the peak switch current comparator. It is normally used for frequency compensation, but can do double duty as a current clamp or control loop override. This (See Datasheet)", 12 ~{SHDN} (in) "The shutdown pin is used to turn off the regulator and to reduce input drain current to a few microamperes. Actually, this pin has two separate thresholds, one at 2.38V to disable switching, and a second at 0.4V to force (See Datasheet)", 13 SYNC (in) "The sync pin is used to synchronize the internal oscillator to an external signal. It is directly logic compatible and can be driven with any signal between 10% and 90% duty cycle. The synchronizing range is equal to initial (See Datasheet)", 14 VSW (power) "The switch pin is the emitter of the on-chip power NPN switch. This pin is driven up to the input pin voltage during switch on time. Inductor current drives the switch pin negative during switch off time. Negative voltage is (See Datasheet)", 15 VSW (power) "The switch pin is the emitter of the on-chip power NPN switch. This pin is driven up to the input pin voltage during switch on time. Inductor current drives the switch pin negative during switch off time. Negative voltage is (See Datasheet)", 16 GND (power) "The GND pin connection needs consideration for two reasons. First, it acts as the reference for the regulated output, so load regulation will suffer if the “ground?end of the load is not at the same voltage as the (See Datasheet)", 17 EP (power)

## LT1374HVIFE#TR
designator U?
4.5 A, 500 kHz Step-Down Switching Regulator, 16-pin SOP (FE-16-EPV-BB), -40 to 125 degC, Tape and Reel; Manufacturer: Linear Technology; PartNumber: LT1374HVIFE#TR; Number of Outputs: 1; PackageReference: FE-16; PackageDescription: 16-Pin Plastic TSSOP, Body 5 x 4.4 mm, Pitch 0.65 mm; Supplier 1: Digi-Key; Supplier Part Number 1: LT1374HVIFE#TR-ND; RoHS: FALSE
footprint LT-FE-16-EPV-BB_N (SOP, 16-Leads, Body 5.1x4.5mm, Pitch 0.65mm, Thermal Pad 3.58x2.94mm, IPC Medium Density)
footprint LT-FE-16-EPV-BB_L (SOP, 16-Leads, Body 5.1x4.5mm, Pitch 0.65mm, Thermal Pad 3.58x2.94mm, IPC High Density)
footprint LT-FE-16-EPV-BB_M (SOP, 16-Leads, Body 5.1x4.5mm, Pitch 0.65mm, Thermal Pad 3.58x2.94mm, IPC Low Density)
pins: 1 GND (power) "The GND pin connection needs consideration for two reasons. First, it acts as the reference for the regulated output, so load regulation will suffer if the “ground?end of the load is not at the same voltage as the (See Datasheet)", 2 NC "No Connect. Leave floating or solder to any node.", 3 VIN (power) "This is the collector of the on-chip power NPN switch. This pin powers the internal circuitry and internal regulator when the BIAS pin is not present. At NPN switch on and off, high dI/dt edges occur on this pin. Keep the (See Datasheet)", 4 VIN (power) "This is the collector of the on-chip power NPN switch. This pin powers the internal circuitry and internal regulator when the BIAS pin is not present. At NPN switch on and off, high dI/dt edges occur on this pin. Keep the (See Datasheet)", 5 BOOST "The BOOST pin is used to provide a drive voltage, higher than the input voltage, to the internal bipolar NPN power switch. Without this added voltage, the typical switch voltage loss would be about 1.5V. The additional boost (See Datasheet)", 6 FB/SENSE (in) "The feedback pin is the input to the error amplifier which is referenced to an internal 2.42V source. An external resistive divider is used to set the output voltage. The fixed voltage (-5) parts have the divider included (See Datasheet)", 7 NC "No Connect. Leave floating or solder to any node.", 8 GND (power) "The GND pin connection needs consideration for two reasons. First, it acts as the reference for the regulated output, so load regulation will suffer if the “ground?end of the load is not at the same voltage as the (See Datasheet)", 9 GND (power) "The GND pin connection needs consideration for two reasons. First, it acts as the reference for the regulated output, so load regulation will suffer if the “ground?end of the load is not at the same voltage as the (See Datasheet)", 10 BIAS (power) "The BIAS pin is used to improve efficiency when operating at higher input voltages and light load current. Connecting this pin to the regulated output voltage forces most of the internal circuitry to draw its operating (See Datasheet)", 11 VC "The VC pin is the output of the error amplifier and the input of the peak switch current comparator. It is normally used for frequency compensation, but can do double duty as a current clamp or control loop override. This (See Datasheet)", 12 ~{SHDN} (in) "The shutdown pin is used to turn off the regulator and to reduce input drain current to a few microamperes. Actually, this pin has two separate thresholds, one at 2.38V to disable switching, and a second at 0.4V to force (See Datasheet)", 13 SYNC (in) "The sync pin is used to synchronize the internal oscillator to an external signal. It is directly logic compatible and can be driven with any signal between 10% and 90% duty cycle. The synchronizing range is equal to initial (See Datasheet)", 14 VSW (power) "The switch pin is the emitter of the on-chip power NPN switch. This pin is driven up to the input pin voltage during switch on time. Inductor current drives the switch pin negative during switch off time. Negative voltage is (See Datasheet)", 15 VSW (power) "The switch pin is the emitter of the on-chip power NPN switch. This pin is driven up to the input pin voltage during switch on time. Inductor current drives the switch pin negative during switch off time. Negative voltage is (See Datasheet)", 16 GND (power) "The GND pin connection needs consideration for two reasons. First, it acts as the reference for the regulated output, so load regulation will suffer if the “ground?end of the load is not at the same voltage as the (See Datasheet)", 17 EP (power)

## LT1374HVIFE#TRPBF
designator U?
4.5 A, 500 kHz Step-Down Switching Regulator, 16-pin SOP-(FE-16-EPV-BB), -40 to 125 degC, Pb-Free, Tape and Reel; Manufacturer: Linear Technology; PartNumber: LT1374HVIFE#TRPBF; Number of Outputs: 1; PackageReference: FE-16; PackageDescription: 16-Pin Plastic TSSOP, Body 5 x 4.4 mm, Pitch 0.65 mm; Supplier 1: Digi-Key; Supplier Part Number 1: LT1374HVIFE#TRPBF-ND; RoHS: TRUE
footprint LT-FE-16-EPV-BB_N (SOP, 16-Leads, Body 5.1x4.5mm, Pitch 0.65mm, Thermal Pad 3.58x2.94mm, IPC Medium Density)
footprint LT-FE-16-EPV-BB_L (SOP, 16-Leads, Body 5.1x4.5mm, Pitch 0.65mm, Thermal Pad 3.58x2.94mm, IPC High Density)
footprint LT-FE-16-EPV-BB_M (SOP, 16-Leads, Body 5.1x4.5mm, Pitch 0.65mm, Thermal Pad 3.58x2.94mm, IPC Low Density)
pins: 1 GND (power) "The GND pin connection needs consideration for two reasons. First, it acts as the reference for the regulated output, so load regulation will suffer if the “ground?end of the load is not at the same voltage as the (See Datasheet)", 2 NC "No Connect. Leave floating or solder to any node.", 3 VIN (power) "This is the collector of the on-chip power NPN switch. This pin powers the internal circuitry and internal regulator when the BIAS pin is not present. At NPN switch on and off, high dI/dt edges occur on this pin. Keep the (See Datasheet)", 4 VIN (power) "This is the collector of the on-chip power NPN switch. This pin powers the internal circuitry and internal regulator when the BIAS pin is not present. At NPN switch on and off, high dI/dt edges occur on this pin. Keep the (See Datasheet)", 5 BOOST "The BOOST pin is used to provide a drive voltage, higher than the input voltage, to the internal bipolar NPN power switch. Without this added voltage, the typical switch voltage loss would be about 1.5V. The additional boost (See Datasheet)", 6 FB/SENSE (in) "The feedback pin is the input to the error amplifier which is referenced to an internal 2.42V source. An external resistive divider is used to set the output voltage. The fixed voltage (-5) parts have the divider included (See Datasheet)", 7 NC "No Connect. Leave floating or solder to any node.", 8 GND (power) "The GND pin connection needs consideration for two reasons. First, it acts as the reference for the regulated output, so load regulation will suffer if the “ground?end of the load is not at the same voltage as the (See Datasheet)", 9 GND (power) "The GND pin connection needs consideration for two reasons. First, it acts as the reference for the regulated output, so load regulation will suffer if the “ground?end of the load is not at the same voltage as the (See Datasheet)", 10 BIAS (power) "The BIAS pin is used to improve efficiency when operating at higher input voltages and light load current. Connecting this pin to the regulated output voltage forces most of the internal circuitry to draw its operating (See Datasheet)", 11 VC "The VC pin is the output of the error amplifier and the input of the peak switch current comparator. It is normally used for frequency compensation, but can do double duty as a current clamp or control loop override. This (See Datasheet)", 12 ~{SHDN} (in) "The shutdown pin is used to turn off the regulator and to reduce input drain current to a few microamperes. Actually, this pin has two separate thresholds, one at 2.38V to disable switching, and a second at 0.4V to force (See Datasheet)", 13 SYNC (in) "The sync pin is used to synchronize the internal oscillator to an external signal. It is directly logic compatible and can be driven with any signal between 10% and 90% duty cycle. The synchronizing range is equal to initial (See Datasheet)", 14 VSW (power) "The switch pin is the emitter of the on-chip power NPN switch. This pin is driven up to the input pin voltage during switch on time. Inductor current drives the switch pin negative during switch off time. Negative voltage is (See Datasheet)", 15 VSW (power) "The switch pin is the emitter of the on-chip power NPN switch. This pin is driven up to the input pin voltage during switch on time. Inductor current drives the switch pin negative during switch off time. Negative voltage is (See Datasheet)", 16 GND (power) "The GND pin connection needs consideration for two reasons. First, it acts as the reference for the regulated output, so load regulation will suffer if the “ground?end of the load is not at the same voltage as the (See Datasheet)", 17 EP (power)